# Altium schematic symbol library 13_Other.SchLib: 1 symbol
Pins are listed as number, name and electrical type; pins without a type are passive.

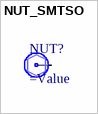
[diagram p0: symbol NUT_SMTSO]

## NUT_SMTSO
designator NUT?
PCB表贴螺母柱
pins: 1